# Altium schematic symbol library Components - 27.08.20 - 18.32.SchLib: 1 symbol
Pins are listed as number, name and electrical type; pins without a type are passive.

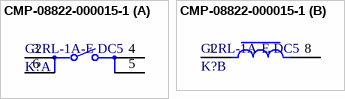
[diagram p0: symbol CMP-08822-000015-1]

## CMP-08822-000015-1
designator K?, comment G2RL-1A-E DC5
RELAY GEN PURPOSE SPST 16A 5V; Manufacturer: Omron; Number Of Contacts: 1; Coil Power: 400mW; Coil Type: Non-Latching; Coil Current: 80mA; Throw Configuration: SPST-NO; Coil Resistance: 62.5Ω; Current Rating: 16A; Ambient Temperature Range Low: -40°C; ComponentLink2URL: https://omronfs.omron.com/en_US/ecb/products/pdf/en-g2rl.pdf; Octopart: https://octopart.com/g2rl-1a-e-dc5-omron-797358; Automotive: No; Device Class L2: Relays; Ambient Temperature Range High: +85°C; Temperature Range Low: -40°C; RoHS: TRUE; ComponentLink2Description: Datasheet; Lead Free: Yes; Device Class L1: Electromechanical; Coil Voltage: 5V; Category: Relay; Manufacturer Part Number: G2RL-1A-E DC5; Temperature: -40°C to +85°C; Digikey Description: RELAY GEN PURPOSE SPST 16A 5V; Height: 15.7mm; Device Class L3: Power Relays; Temperature Range High: +85°C; Package: 0; Switching Current: 16A; Mouser Description: Power Relay 5VDC 16A SPST-NO (( 29mm 12.7mm 15.7mm)) Through Hole
footprint FP-G2RL-1A-E_DC5-MFG
part A pins: 3, 4, 5, 6
part B pins: 1, 8